# Altium footprint library Cuon Cam.PcbLib: 21 footprints (part 1 of 2)
Each footprint in its own frame and in the unit in brackets; x right, y up, seen from the top. Pads: shape width x height; smd on the part's side, far side on the other; paste and mask are expansions set on the pad; w line width, h text height; cw(c..) or ccw(c..) is an arc to the next point about the centre after c.
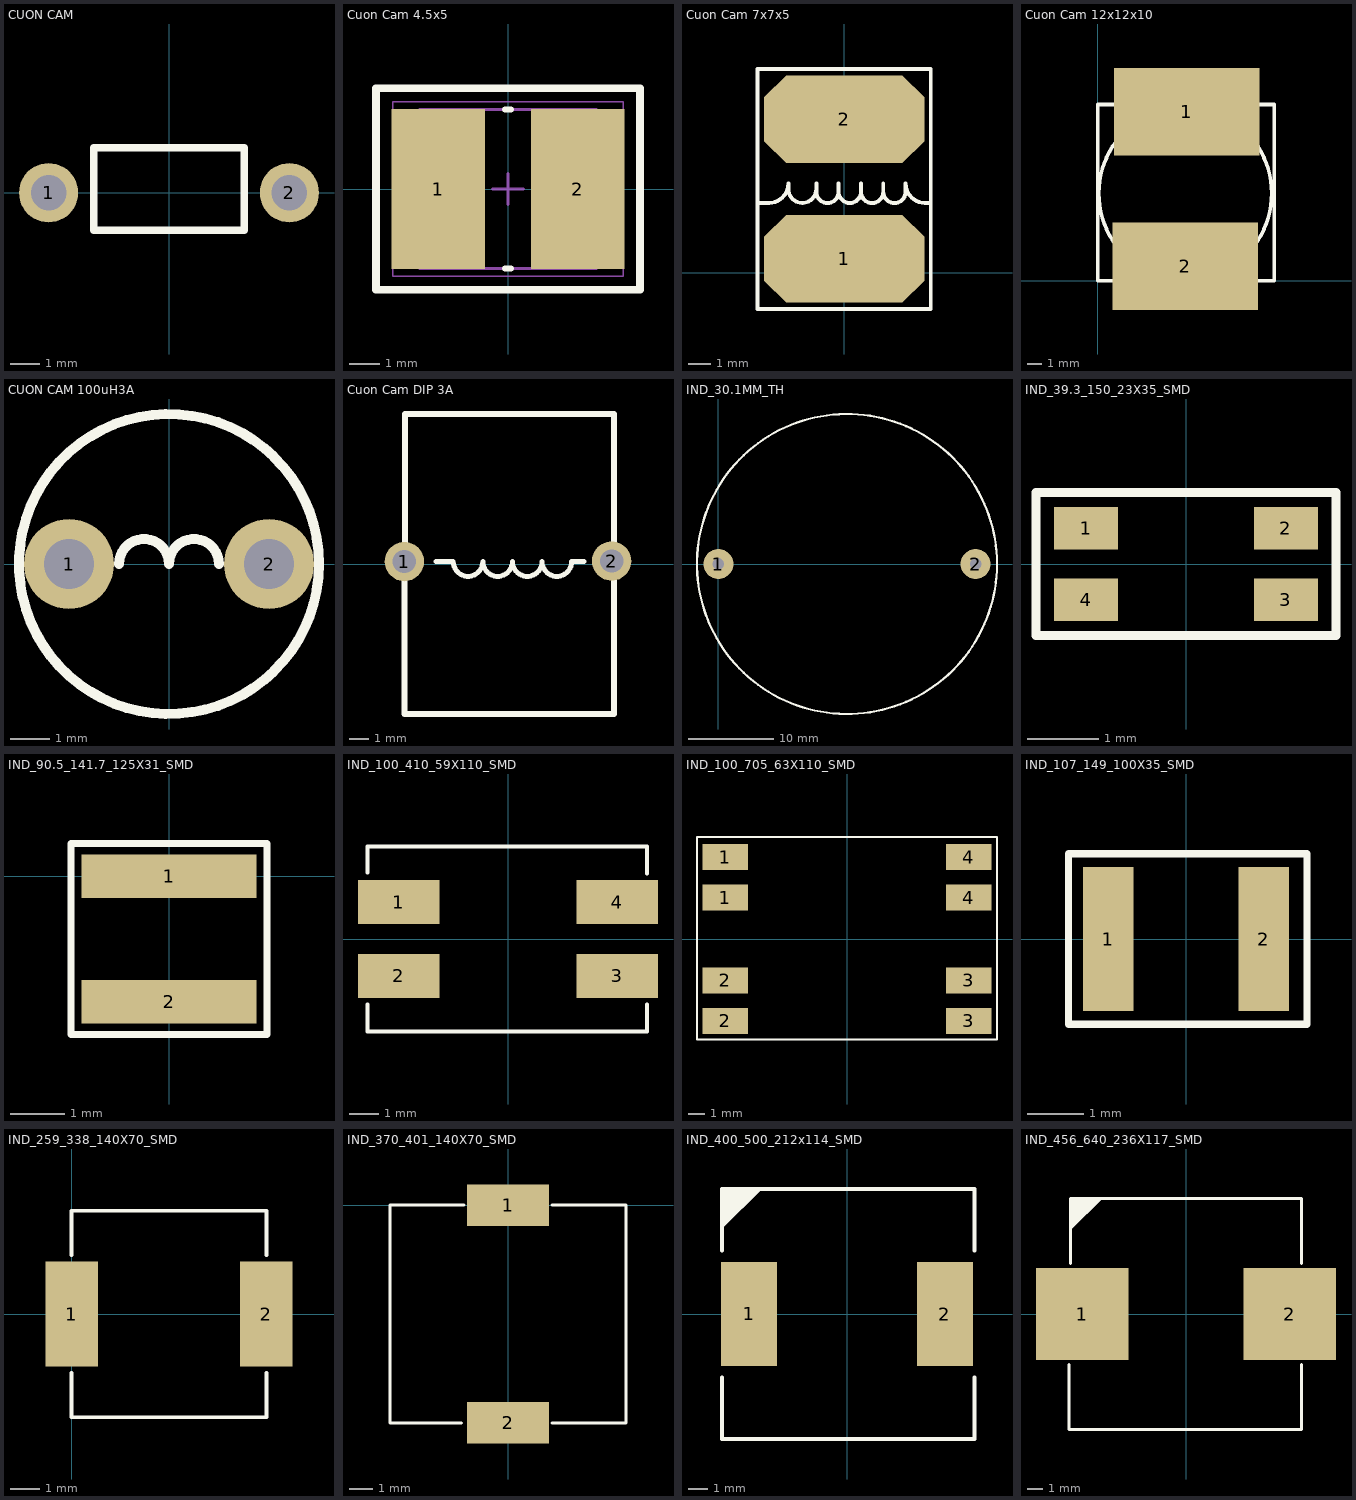
[diagram p0: the footprints below, top view; thin cyan lines are the x and y axes]

## CUON CAM [mm] "Dang cam giong tro"
pads (2):
  round 2 hole 1.2: 1(-4.064,0) 2(4.064,0)
Top Overlay:
  lines w0.254: -2.54,-1.27 2.54,-1.27 2.54,1.524 -2.54,1.524 -2.54,-1.27

## Cuon Cam 4.5x5 [mm] "Cuon Cam 4.5x5"
height 2.29
pads (2):
  rect 3.05x5.25 smd: 1(-2.286,0) 2(2.286,0)
Top Overlay:
  lines w0.2: -0.1,-2.6 0.1,-2.6 ; -0.1,2.6 0.1,2.6
  lines w0.254: -4.318,-3.302 -4.318,3.302 4.318,3.302 4.318,-3.302 -4.318,-3.302
Mechanical 13:
  lines w0.1: -2.9,-2.6 2.9,-2.6 2.9,2.6 -2.9,2.6 -2.9,-2.6
Mechanical 15:
  lines w0.05: -3.775,-2.85 3.775,-2.85 3.775,2.85 -3.775,2.85 -3.775,-2.85
  lines w0.1: -0.5,0 0.5,0 ; 0,-0.5 0,0.5
3D body: height 2.29, standoff 0, extent -2.9,-2.6 2.9,2.6

## Cuon Cam 7x7x5 [mm] "Cuon Cam 7x7x5"
pads (2):
  oct 7.3x4 smd: 1(0,0.635) 2(0,6.985)
Top Overlay:
  lines w0.178: -3.937,3.175 -3.429,3.175 ccw(c-3.429,4.064) -2.54,4.064 -2.54,3.81 ccw(c-1.905,3.81) -1.905,3.175 ccw(c-1.905,3.81) -1.27,3.81 -1.27,4.064 -1.27,3.683 ccw(c-0.762,3.683) -0.762,3.175 ccw(c-0.762,3.683) -0.254,3.683 ; 3.937,3.175 3.683,3.175 cw(c3.683,4.064) 2.794,4.064 2.794,3.683 cw(c2.286,3.683) 2.286,3.175 cw(c2.286,3.683) 1.778,3.683 ; -0.254,3.683 ccw(c0.254,3.683) 0.254,3.175 ccw(c0.254,3.683) 0.762,3.683 ; -0.254,3.683 -0.254,4.064 -0.254,3.683 ; 0.762,3.683 ccw(c1.27,3.683) 1.27,3.175 ccw(c1.27,3.683) 1.778,3.683 ; 0.762,3.683 0.762,4.064 0.762,3.683 ; 1.778,3.683 1.778,4.064 1.778,3.683 ; -3.937,-1.651 3.937,-1.651 3.937,9.271 -3.937,9.271 -3.937,-1.651
3D body "cuon cam 75.step": height 5.02, standoff 0.01, extent -3.5,0.069 3.5,7.805

## Cuon Cam 12x12x10 [mm] "Cuon Cam 12x12x10"
pads (2):
  rect 10x6 smd: 1(6.1,11.6) 2(6,1)
Top Overlay:
  circle w0.254: c6,6 r5.941
  lines w0.254: 0,0 0,12.1 12.1,12.1 12.1,9.2 12.1,0 0,0
3D body "CUON CAM CDRH127 3A SMD.step": height 7.51, standoff 0.06, extent 0.096,-0.202 12.096,12.14

## CUON CAM 100uH3A [mil] "100uH3A"
pads (2):
  round 90 hole 50: 1(-100,0) 2(100,0)
Top Overlay:
  circle w10: c0,0 r150
  lines w10: -50,0 cw(c-25,0) 0,0 cw(c25,0) 50,0
3D body "cuon cam cam 1A.step": height 394.18, standoff -196.37, extent -171.27,-175.26 171.25,167.26

## Cuon Cam DIP 3A [mil]
pads (2):
  round 80 hole 47.24: 1(128,6) 2(548,7)
Top Overlay:
  lines w10: 192,6 227,6 ccw(c257,6) 287,6 ccw(c317,6) 347,6 ccw(c377,6) 407,6 ccw(c437,6) 467,6 492,6
  lines w12: 128,-303 128,17 129,18 129,305 553,305 553,-303 128,-303

## IND_30.1MM_TH [mm]
pads (2):
  round 3.5 hole 1.35: 1(0,0) 2(30,0)
Top Overlay:
  circle w0.254: c15,0 r17.5
3D body "01.STEP": height 14.28, standoff 0.72, extent 3.062,-12.136 27.418,12.39

## IND_39.3_150_23X35_SMD [mm] "Inductor"
height 2
pads (4):
  rect 0.9x0.6 smd: 1(-1.4,0.5) 2(1.4,0.5) 3(1.4,-0.5) 4(-1.4,-0.5)
Top Overlay:
  lines w0.127: -2.1,-1 -2.1,1 2.1,1 2.1,-1 -2.1,-1
3D body "User Library-srf3216.step": height 2.01, standoff 0.01, extent -1.6,-0.8 1.6,0.8

## IND_90.5_141.7_125X31_SMD [mm] "Inductor"
height 1.2
pads (2):
  rect 3.2x0.8 smd: 1(0,0) 2(0,-2.3)
Top Overlay:
  lines w0.127: -1.8,-2.9 -1.8,0.6 1.8,0.6 1.8,-2.9 -1.8,-2.9

## IND_100_410_59X110_SMD [mm] "CASE: SMD"
height 5.3
pads (4):
  rect 2.8x1.5 smd: 1(-3.75,1.27) 2(-3.75,-1.27) 3(3.75,-1.27) 4(3.75,1.27)
Top Overlay:
  lines w0.127: -4.826,-2.25 -4.826,-3.175 4.775,-3.175 4.775,-2.25 ; -4.826,2.286 -4.826,3.175 4.775,3.175 4.775,2.25
3D body "STEP-WE-SL2-rev1.stp": height 5, standoff 0, extent -4.6,-3.025 4.6,2.975

## IND_100_705_63X110_SMD [mm] "CASE: SMD"
height 7.8
pads (8):
  rect 2.8x1.6 smd: 1(-7.5,2.55) 1(-7.5,5.05) 2(-7.5,-5.05) 2(-7.5,-2.55) 3(7.5,-5.05) 3(7.5,-2.55) 4(7.5,2.55) 4(7.5,5.05)
Top Overlay:
  lines w0.127: -9.25,-6.2 -9.25,6.3 9.25,6.3 9.25,-6.2 -9.25,-6.2
3D body "744290152 (rev1).stp": height 9.32, standoff 0.02, extent -8.231,-6.153 8.369,6.347

## IND_107_149_100X35_SMD [mm] "Inductor"
height 1.5
pads (2):
  rect 0.89x2.54 smd: 1(-1.37,0) 2(1.37,0)
Top Overlay:
  lines w0.127: -2.07,-1.5 -2.07,1.5 2.13,1.5 2.13,-1.5 -2.07,-1.5
3D body "Coilcraft-PFL3215.step": height 1.51, standoff 0.01, extent -1.6,-1.143 1.6,1.143

## IND_259_338_140X70_SMD [mm] "Inductor"
height 2.8
pads (2):
  rect 1.78x3.56 smd: 1(0,0) 2(6.6,0)
Top Overlay:
  lines w0.127: 0,-2 0,-3.5 6.6,-3.5 6.6,-2 ; 0,2 0,3.5 6.6,3.5 6.6,2

## IND_370_401_140X70_SMD [mm] "SMD INDUCTOR"
height 3.785
pads (2):
  rect 3.56x1.78 smd: 1(0,0) 2(0,-9.4)
Top Overlay:
  lines w0.127: -2,-9.4 -5.1,-9.4 -5.1,0 -1.9,0 ; 1.9,-9.4 5.1,-9.4 5.1,0 1.9,0
3D body "Triad Magnetics-AX104R-100.step": height 4.01, standoff 0.01, extent -5.2,-9.9 5.1,0.5

## IND_400_500_212x114_SMD [mm] "wurth inductor"
height 8
pads (2):
  rect 2.9x5.4 smd: 1(-5.08,0) 2(5.08,0)
Top Overlay:
  region: -6.477,6.477 -4.431,6.477 -6.47,4.438
  lines w0.2: -6.477,-3.3 -6.477,-6.477 6.604,-6.477 6.604,-3.3 ; -6.477,3.3 -6.477,6.477 6.604,6.477 6.604,3.3
3D body "Inductor  12mmX 12mm .step": height 8.1, standoff 0, extent -6.125,-6.025 6.125,6.025

## IND_456_640_236X117_SMD [mm] "SMD Inductor on Sunrom"
height 8.6
pads (2):
  rect 6x6 smd: 1(-6.75,0) 2(6.75,0)
Top Overlay:
  rectangle: -7.5,7.493 -5.08,7.5
  region: -7.5,7.5 -5.454,7.5 -7.493,5.461
  lines w0.2: -7.6,-3.3 -7.6,-7.5 7.5,-7.5 7.5,-3.3 ; -7.5,3.3 -7.5,7.5 7.5,7.5 7.5,3.3
3D body "Inductor  12mmX 12mm .step": height 8.1, standoff 0, extent -6.125,-6.125 6.125,5.925